# Altium schematic symbol library SCH - RF - AMPLIFIER - GUERRILLARF GRF5536.SchLib: 1 symbol
Pins are listed as number, name and electrical type; pins without a type are passive.

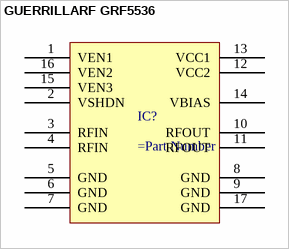
[diagram p0: symbol GUERRILLARF GRF5536]

## GUERRILLARF GRF5536
designator IC?
pins: 1 VEN1, 2 VSHDN, 3 RFIN, 4 RFIN, 5 GND, 6 GND, 7 GND, 8 GND, 9 GND, 10 RFOUT, 11 RFOUT, 12 VCC2, 13 VCC1, 14 VBIAS, 15 VEN3, 16 VEN2, 17 GND